# EAGLE library part TCS34725 (library Robotica-IFRN-SC-sensores)
Sensor de cor TCS34725
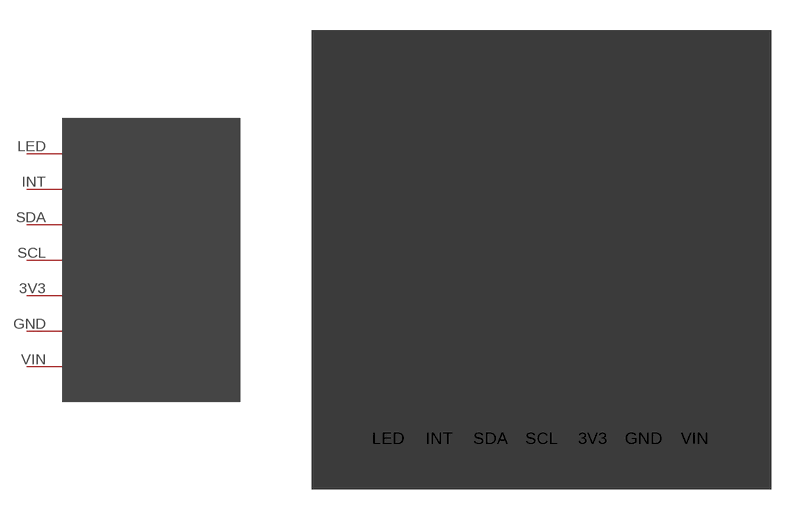
[diagram p2: symbol with the pads of TCS34725; footprint TCS34725]

Designator prefix TCS34725

## TCS34725  [TCS34725]
3V3  3V3
GND  GND
INT  INT
LED  LED
SCL  SCL
SDA  SDA
VIN  VIN

## Footprint TCS34725 (pad centres in mm)
drill 0.8 long: 3V3 0,-5.08; GND 2.54,-5.08; INT -7.62,-5.08; LED -10.16,-5.08; SCL -2.54,-5.08; SDA -5.08,-5.08; VIN 5.08,-5.08
hole 2.2 at -12.7,13.97
hole 2.2 at 7.62,13.97